# EAGLE library part GRPB042MWCN-RC (library thanics-connector)
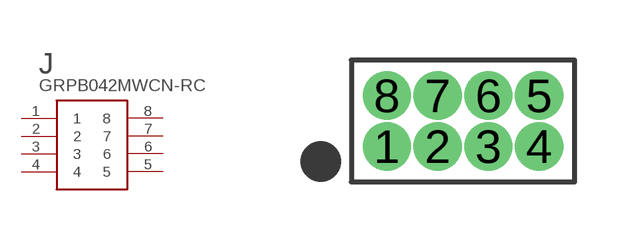
[diagram p3: symbol with the pads of GRPB042MWCN-RC; footprint GRPB042MWCN-RC]

Designator prefix J

## GRPB042MWCN-RC  [GRPB042MWCN-RC]
1  1
2  2
3  3
4  4
5  5
6  6
7  7
8  8

## Footprint GRPB042MWCN-RC (pad centres in mm)
drill 0.7 pad 0.991: 1 -1.905,-0.635; 2 -0.635,-0.635; 3 0.635,-0.635; 4 1.905,-0.635; 5 1.905,0.635; 6 0.635,0.635; 7 -0.635,0.635; 8 -1.905,0.635